# Altium footprint library Button.PcbLib: 2 footprints
Each footprint in its own frame and in the unit in brackets; x right, y up, seen from the top. Pads: shape width x height; smd on the part's side, far side on the other; paste and mask are expansions set on the pad; w line width, h text height; cw(c..) or ccw(c..) is an arc to the next point about the centre after c.
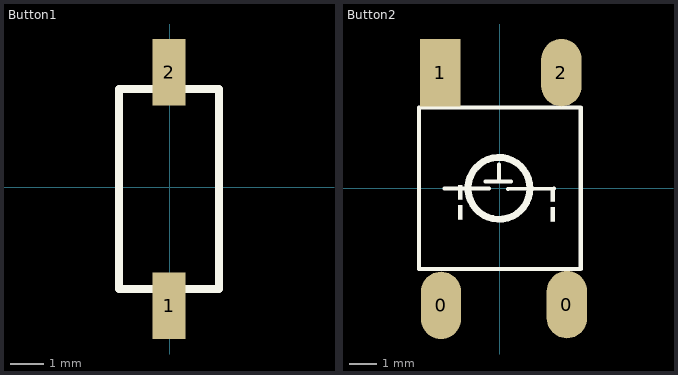
[diagram p0: the footprints below, top view; thin cyan lines are the x and y axes]

## Button1 [mm]
pads (2):
  rect 1x2 smd: 1(-0.024,-3.548) 2(-0.024,3.452)
Top Overlay:
  lines w0.254: -1.524,-3.048 -1.524,2.952 1.476,2.952 1.476,-3.048 -1.524,-3.048
3D body: height 2.5, standoff 0, extent -0.624,-1.248 0.576,1.152
3D body: height 1.3, standoff 0, extent -1.524,-3.048 1.476,2.952

## Button2 [mm] "6mm*6mm"
height 6
pads (4):
  oval 1.5x2.5 smd: 0(-2.184,-4.343) 0(2.489,-4.318) 2(2.286,4.293)
  rect 1.5x2.5 smd: 1(-2.21,4.293)
Top Overlay:
  circle w0.254: c-0.032,0 r1.15
  lines w0.152: -2.057,0 -0.406,0 ; -0.53,0.254 0.406,0.254 ; -0.025,0.279 -0.025,0.879 ; 0.305,-0.025 2.007,0
  lines w0.154: -3,-3 -3,3 3,3 3,-3 -3,-3
  text "--" at 2.54,-1.346 h1.52
  text "--" at -0.889,-1.27 h1.52